# Altium schematic symbol library Switching_Voltage_Regulators.SchLib: 12 symbols
Pins are listed as number, name and electrical type; pins without a type are passive.

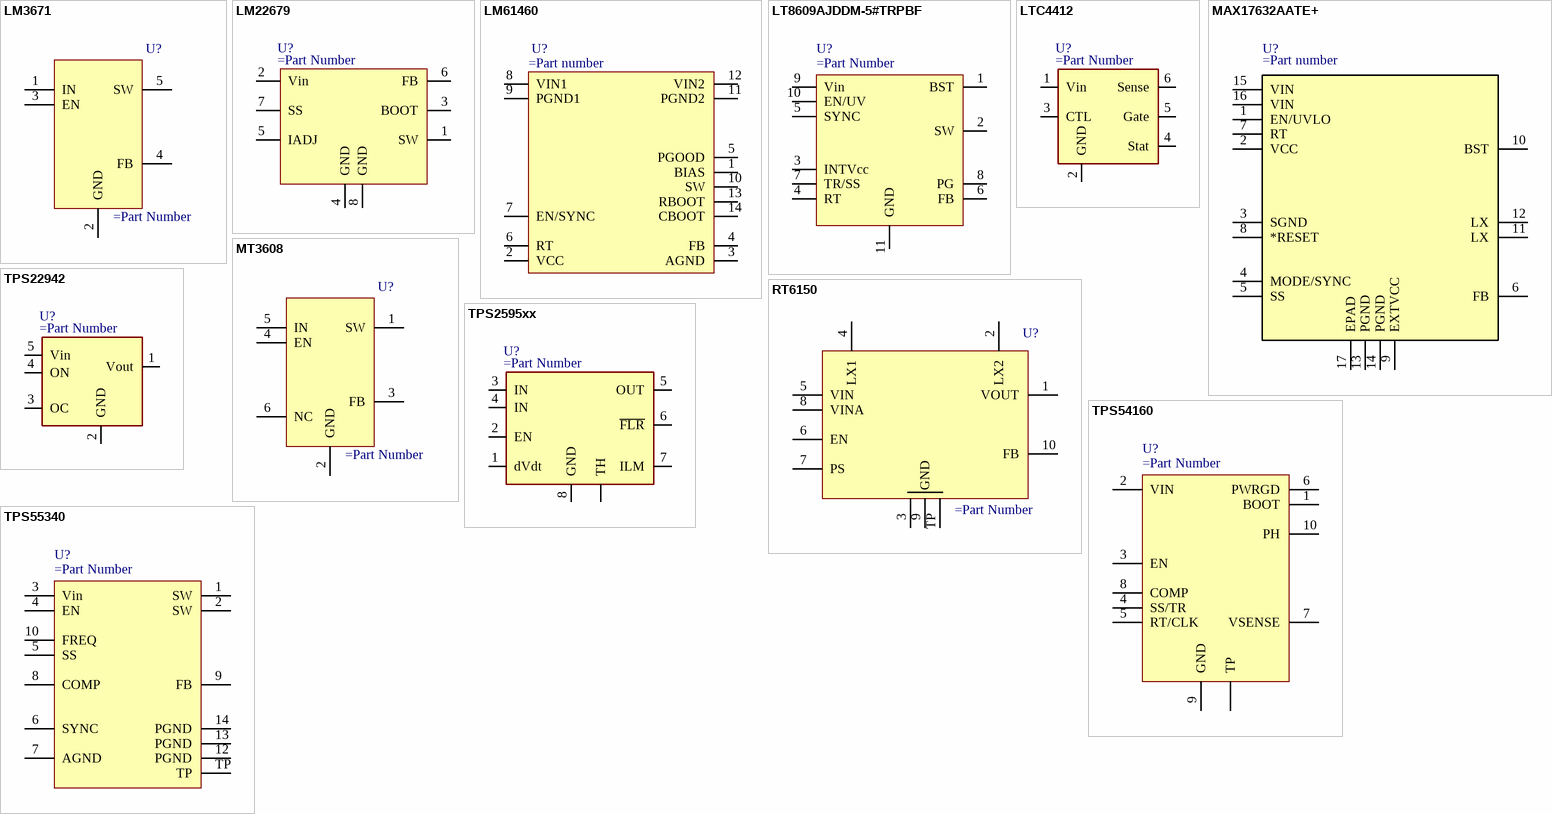
[diagram p0: symbols LM3671 to TPS55340]

## LM3671
designator U?
pins: 1 IN, 2 GND, 3 EN, 4 FB, 5 SW

## LM22679
designator U?
pins: 1 SW, 2 Vin, 3 BOOT, 4 GND, 5 IADJ, 6 FB, 7 SS, 8 GND

## LM61460
designator U?
pins: 1 BIAS, 2 VCC, 3 AGND, 4 FB, 5 PGOOD, 6 RT, 7 EN/SYNC, 8 VIN1, 9 PGND1, 10 SW, 11 PGND2, 12 VIN2, 13 RBOOT, 14 CBOOT

## LT8609AJDDM-5#TRPBF
designator U?
pins: 1 BST, 2 SW, 3 INTVcc, 4 RT, 5 SYNC, 6 FB, 7 TR/SS, 8 PG, 9 Vin, 10 EN/UV, 11 GND

## LTC4412
designator U?
pins: 1 Vin, 2 GND, 3 CTL, 4 Stat, 5 Gate, 6 Sense

## MAX17632AATE+
designator U?
pins: 1 EN/UVLO, 2 VCC (power), 3 SGND, 4 MODE/SYNC, 5 SS, 6 FB, 7 RT, 8 *RESET, 9 EXTVCC, 10 BST, 11 LX, 12 LX, 13 PGND, 14 PGND, 15 VIN, 16 VIN, 17 EPAD

## MT3608
designator U?
pins: 1 SW, 2 GND, 3 FB, 4 EN, 5 IN, 6 NC

## RT6150
designator U?
pins: 1 VOUT, 2 LX2, 3 GND, 4 LX1, 5 VIN, 6 EN, 7 PS, 8 VINA, 9 GND, 10 FB, TP GND

## TPS2595xx
designator U?
pins: 1 dVdt, 2 EN, 3 IN, 4 IN, 5 OUT, 6 ~{FLR}, 7 ILM, 8 GND, TH

## TPS22942
designator U?
pins: 1 Vout, 2 GND, 3 OC, 4 ON, 5 Vin

## TPS54160
designator U?
pins: 1 BOOT, 2 VIN, 3 EN, 4 SS/TR, 5 RT/CLK, 6 PWRGD, 7 VSENSE, 8 COMP, 9 GND, 10 PH, TP

## TPS55340
designator U?
pins: 1 SW, 2 SW, 3 Vin, 4 EN, 5 SS, 6 SYNC, 7 AGND, 8 COMP, 9 FB, 10 FREQ, 12 PGND, 13 PGND, 14 PGND, TP